# Altium footprint library CE_6.3x11.PcbLib: 1 footprints
Each footprint in its own frame and in the unit in brackets; x right, y up, seen from the top. Pads: shape width x height; smd on the part's side, far side on the other; paste and mask are expansions set on the pad; w line width, h text height; cw(c..) or ccw(c..) is an arc to the next point about the centre after c.
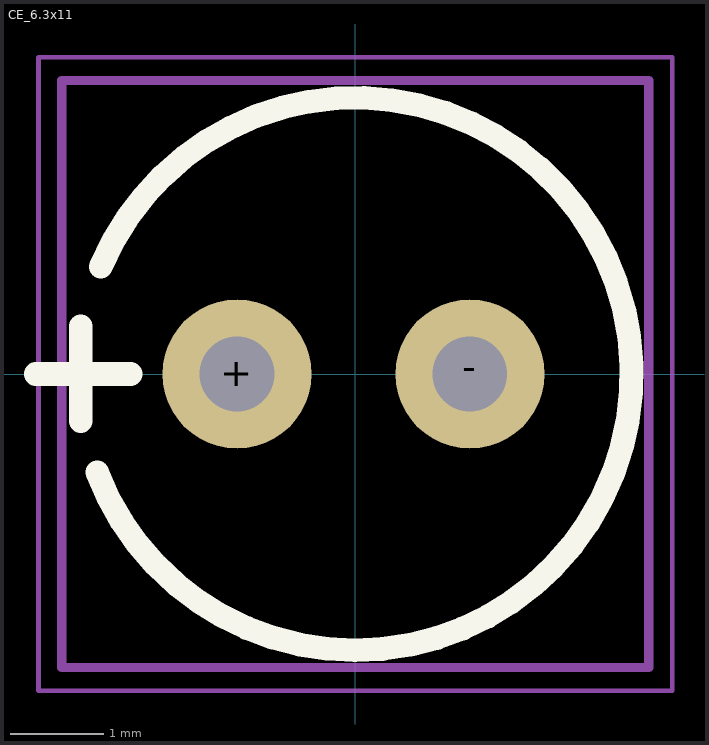
[diagram p0: the footprint, top view; thin cyan lines are the x and y axes]

## CE_6.3x11 [mm]
height 11
pads (2):
  round 1.6 hole 0.8: +(-1.27,0) -(1.23,0)
Top Overlay:
  lines w0.254: -3.429,0 -2.413,0 ; -2.948,-0.504 -2.948,0.512 ; -2.771,-1.055 ccw(c0,0) -2.733,1.151
Top Assembly:
  lines w0.1: -3.15,-3.15 3.15,-3.15 3.15,3.15 -3.15,3.15 -3.15,-3.15
Top Courtyard:
  lines w0.05: -3.4,-3.4 -3.4,3.4 3.4,3.4 3.4,-3.4 -3.4,-3.4
Top Designator:
  text ".Designator" at -7.638,-0.508 h1.52
3D body "EC 6.3x11 P2.5 D0.5.STEP": height 11, standoff -1.8, extent -3.17,-3.15 3.13,3.15